# Altium footprint library MyComponents.PcbLib: 1 footprints
Each footprint in its own frame and in the unit in brackets; x right, y up, seen from the top. Pads: shape width x height; smd on the part's side, far side on the other; paste and mask are expansions set on the pad; w line width, h text height; cw(c..) or ccw(c..) is an arc to the next point about the centre after c.
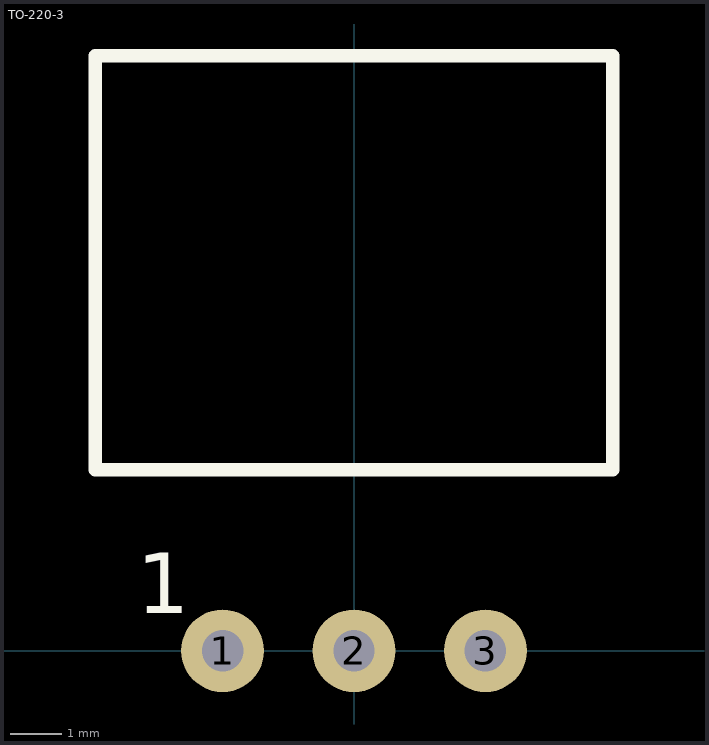
[diagram p0: the footprint, top view; thin cyan lines are the x and y axes]

## TO-220-3 [mm]
pads (3):
  round 1.6 hole 0.8: 1(-2.54,0) 2(0,0) 3(2.54,0)
Top Overlay:
  lines w0.254: -5,3.5 -5,11.5 -2.5,11.5 2.5,11.5 5,11.5 5,3.5 -5,3.5
  text "1" at -4.202,0.343 h2
Top Designator:
  text ".Designator" at -5,12.5 h1